# EAGLE library part 1-776279-1 (library 1-776279-1)
Automotive Connectors 8 POS RIGHT ANGLE HDR ASSY Source: Datasheet <https://www.te.com/commerce/DocumentDelivery/DDEController?Action=showdoc&DocId=Customer Drawing776279F7pdfEnglishENG_CD_776279_F7.pdf1-776279-1>
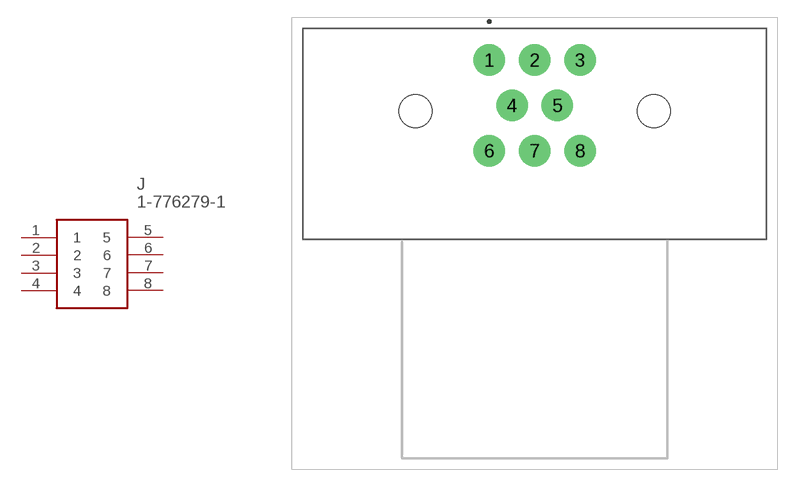
[diagram p0: symbol with the pads of 17762791; footprint 17762791]

Designator prefix J

## 1-776279-1 (Description: Automotive Connectors 8 POS RIGHT ANGLE HDR ASSY; Height: 32.1mm; Manufacturer_Name: TE Connectivity; Manufacturer_Part_Number: 1-776279-1; Mouser_Part_Number: 571-1-776279-1; Mouser_Price-Stock: https://www.mouser.co.uk/ProductDetail/TE-Connectivity/1-776279-1?qs=tLAa1RwIH6fAW8GUe6Xfuw%3D%3D)  [17762791]
1  1
2  2
3  3
4  4
5  5
6  6
7  7
8  8

## Footprint 17762791 (pad centres in mm)
1-776279-1-2
drill 1.85 pad 2.775: 1 0,0; 2 4,0; 3 8,0; 4 2,-4; 5 6,-4; 6 0,-8; 7 4,-8; 8 8,-8
hole 2.93 at -6.5,-4.5
hole 2.93 at 14.5,-4.5